# EAGLE library part TCAN337* (library HyTechDevices - Copy)
TCAN337 Can Tranciever Datasheet <https://www.ti.com/lit/ds/symlink/tcan337.pdf?ts=1610765239354&ref_url=https%253A%252F%252Fwww.ti.com%252Fproduct%252FTCAN337>
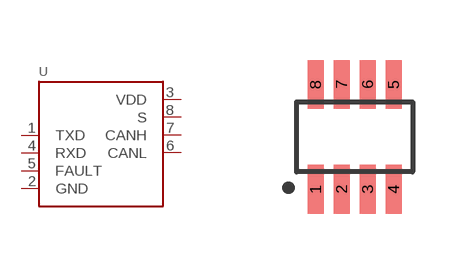
[diagram p13: symbol with the pads of SOT-23-8; footprint SOT-23-8]

Designator prefix U

## TCAN337G (DKPN: 296-48971-1-ND; MANUFACTURER: Texas Instruments; MOPN: 595-TCAN337GDCNR; MPN: TCAN337GDCNR)  [SOT-23-8]
1  TXD  in
2  GND  pwr
3  VDD  pwr
4  RXD  out
5  FAULT  oc
6  CANL
7  CANH  out
8  S  in

## Footprint SOT-23-8 (pad centres in mm)
SOT-23-8 Datasheet <https://www.analog.com/media/en/package-pcb-resources/package/pkg_pdf/ltc-legacy-sot-23/SOT_8_05-08-1637.pdf>
smd 0.4 x 1.22: 1 -0.975,-1.31; 2 -0.325,-1.31; 3 0.325,-1.31; 4 0.975,-1.31; 5 0.975,1.31; 6 0.325,1.31; 7 -0.325,1.31; 8 -0.975,1.31